# EAGLE library part PUENTE_H_TB6612FNG (library UNIT_Biblioteca_Modulos)
Doble Puente H TB6612FNG Source: Datasheet <https://www.pololu.com/file/0J86/TB6612FNG.pdf> SKU: AR0396 Propietario: UNIT Electronics Desarrollador: Angel Velázquez
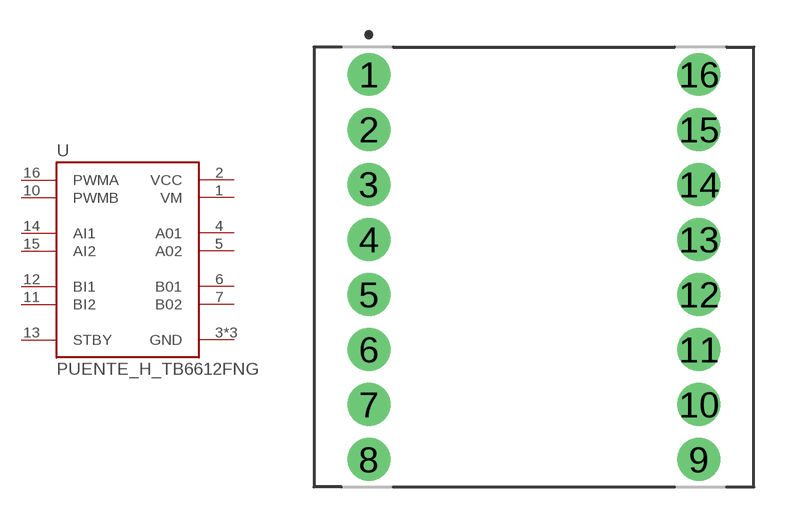
[diagram p30: symbol with the pads of MODULE_ROB-14450; footprint MODULE_ROB-14450]

Designator prefix U

## PUENTE_H_TB6612FNG (CLASS: Module; DESCRIPTION: Doble Puente H TB6612FNG; MANUFACTURER_NAME: TB6612FNG; MANUFACTURER_PART_NUMBER: TB6612FNG; VENDOR_PART_NUMBER: AR0396; VENDOR_PRICE-STOCK: https://uelectronics.com/producto/doble-puente-h-tb6612fng/)  [MODULE_ROB-14450]
1  VM  pwr
2  VCC  pwr
3  GND  pwr
4  A01  out
5  A02  out
6  B01  out
7  B02  out
8  GND  pwr
9  GND  pwr
10  PWMB  in
11  BI2  in
12  BI1  in
13  STBY  in
14  AI1  in
15  AI2  in
16  PWMA  in

## Footprint MODULE_ROB-14450 (pad centres in mm)
drill 1.32: 1 -7.62,8.89; 2 -7.62,6.35; 3 -7.62,3.81; 4 -7.62,1.27; 5 -7.62,-1.27; 6 -7.62,-3.81; 7 -7.62,-6.35; 8 -7.62,-8.89; 9 7.62,-8.89; 10 7.62,-6.35; 11 7.62,-3.81; 12 7.62,-1.27; 13 7.62,1.27; 14 7.62,3.81; 15 7.62,6.35; 16 7.62,8.89